# Altium schematic symbol library INA226.SchLib: 2 symbols
Pins are listed as number, name and electrical type; pins without a type are passive.

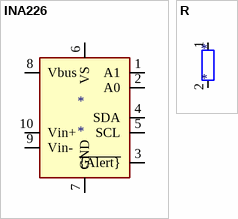
[diagram p0: symbols INA226 to R]

## INA226
designator *
pins: 1 A1, 2 A0, 3 ~{{Alert}}, 4 SDA, 5 SCL, 6 VS, 7 GND, 8 Vbus, 9 Vin-, 10 Vin+

## R
designator *
pins: 1, 2